# EAGLE library part MT3608 (library _mtvl.power)
Mt3608 High Efficiency 1.2MHz 2A Step Up Converter https://datasheet.lcsc.com/szlcsc/1811151539_XI-AN-Aerosemi-Tech-MT3608_C84817.pdf
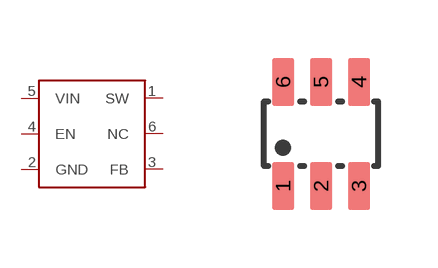
[diagram p10: symbol with the pads of SOT23-6; footprint SOT23-6]

Designator prefix IC

## MT3608  [SOT23-6]
1  SW
2  GND
3  FB
4  EN
5  VIN
6  NC

## Footprint SOT23-6 (pad centres in mm)
smd 0.55 x 1.2: 1 -0.95,-1.3; 2 0,-1.3; 3 0.95,-1.3; 4 0.95,1.3; 5 0,1.3; 6 -0.95,1.3